# Altium schematic symbol library 1.SchLib: 35 symbols
Pins are listed as number, name and electrical type; pins without a type are passive.

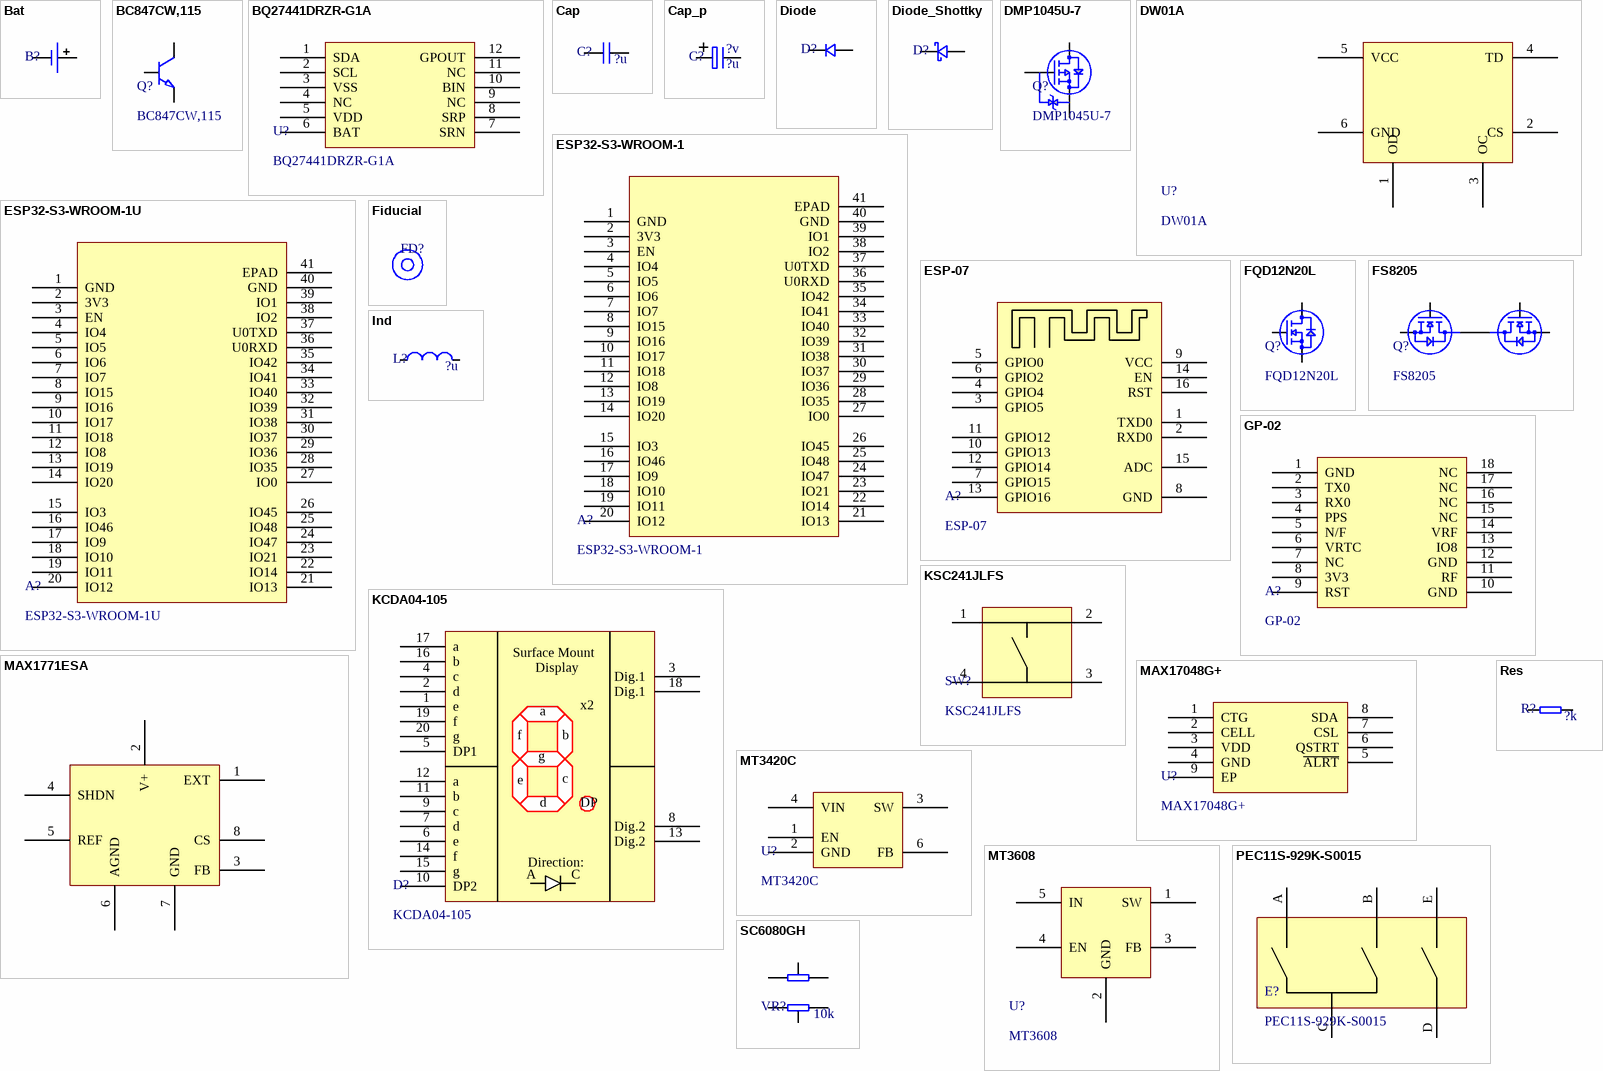
[diagram p0: symbols Bat to SC6080GH]

## Bat
designator B?
BATTERY
pins: 1, 2

## BC847CW,115
designator Q?
TRANS NPN 45V 0.1A SOT23; Manufacturer: Nexperia USA Inc.; P/N: BC847CW,115; Datasheet: https://assets.nexperia.com/documents/data-sheet/BC847_SER.pdf; Package: SOT23
pins: B, C, E
1 alternate drawing of the same symbol

## BQ27441DRZR-G1A
designator U?
IC BATT FUEL GAUGE LI-ION 12SON; Manufacturer: Texas Instruments; Datasheet: http://www.ti.com/lit/ds/symlink/bq27441-g1.pdf; P/N: BQ27441DRZR-G1A
pins: 1 SDA, 2 SCL, 3 VSS, 4 NC, 5 VDD, 6 BAT, 7 SRN, 8 SRP, 9 NC, 10 BIN, 11 NC, 12 GPOUT

## Cap
designator C?, comment ?u
CAPACITOR; Value: ?u
footprint C0402 (Chip Capacitor, 2-Leads, Body 1,00x0,50mm, IPC Medium Density)
footprint C0603 (Chip Capacitor, 2-Leads, Body 1,60x0,80mm, IPC Medium Density)
footprint C0805 (Chip Capacitor, 2-Leads, Body 2,00x1,25mm, IPC Medium Density)
footprint C1206 (Chip Capacitor, 2-Leads, Body 3,20x1,60mm, IPC Medium Density)
footprint C1210 (Chip Capacitor, 2-Leads, Body 3,20x2,50mm, IPC Medium Density)
footprint C1812 (Chip Capacitor, 2-Leads, Body 4,50x3,20mm, IPC Medium Density)
footprint C1825 (Chip Capacitor, 2-Leads, Body 4,50x6,40mm, IPC Medium Density)
footprint C2220 (Chip Capacitor, 2-Leads, Body 5,60x5,00mm, IPC Medium Density)
footprint C2225 (Chip Capacitor, 2-Leads, Body 5,60x6,30mm, IPC Medium Density)
pins: 1, 2

## Cap_p
designator C?, comment Voltage: ?v  (hidden comment: ?u)
CAPACITOR; Value: ?u
footprint CAPM3216X18N_TANTAL_E
footprint CAP_8X10.2 (Aluminum Electrolytic Capacitor, Body 8,25x8,30x10,70mm, IPC Medium Density)
pins: 1, 2

## Diode
designator D?
Diode
footprint CAPM3216X18N_TANTAL_E
pins: 1, 2

## Diode_Shottky
designator D?
Diode Shottky
footprint DIOM6959X26N-SS54 (Molded Diode, 2-Leads, Body 6,86x5,91mm, IPC Medium Density)
pins: 1, 2

## DMP1045U-7
designator Q?
P-CHANNEL ENHANCEMENT MODE MOSFET; Manufacturer: Diodes Incorporated; P/N: DMP1045U-7; Datasheet: https://www.diodes.com/assets/Datasheets/DMP1045U.pdf
footprint SOT23127P600-8N
pins: D, G, S
1 alternate drawing of the same symbol

## DW01A
designator U?
2A 2.3-6V Input 1.5MHz Synchronous Step-Down Converter; Manufacturer: HMsemi; Datasheet: https://hmsemi.com/downfile/DW01A.PDF; P/N: DW01A
footprint SOT23-6-MT3420C (SOT23, 6-Leads, Body 2,90x2,80mm, Pitch 0,95mm, IPC Medium Density)
pins: 1 OD, 2 CS, 3 OC, 4 TD, 5 VCC, 6 GND

## ESP32-S3-WROOM-1
designator A?
2.4 GHz Wi-Fi (802.11 b/g/n) and Bluetooth® 5 (LE) module; Manufacturer: espressif; Datasheet: https://www.espressif.com/sites/default/files/documentation/esp32-s3-wroom-1_wroom-1u_datasheet_en.pdf; P/N: ESP32-S3-WROOM-1
footprint ESP32-S3-WROOM-1
pins: 1 GND, 2 3V3, 3 EN, 4 IO4, 5 IO5, 6 IO6, 7 IO7, 8 IO15, 9 IO16, 10 IO17, 11 IO18, 12 IO8, 13 IO19, 14 IO20, 15 IO3, 16 IO46, 17 IO9, 18 IO10, 19 IO11, 20 IO12, 21 IO13, 22 IO14, 23 IO21, 24 IO47, 25 IO48, 26 IO45, 27 IO0, 28 IO35, 29 IO36, 30 IO37, 31 IO38, 32 IO39, 33 IO40, 34 IO41, 35 IO42, 36 U0RXD, 37 U0TXD, 38 IO2, 39 IO1, 40 GND, 41 EPAD
1 alternate drawing of the same symbol

## ESP32-S3-WROOM-1U
designator A?
2.4 GHz Wi-Fi (802.11 b/g/n) and Bluetooth® 5 (LE) module; Manufacturer: espressif; Datasheet: https://www.espressif.com/sites/default/files/documentation/esp32-s3-wroom-1_wroom-1u_datasheet_en.pdf; P/N: ESP32-S3-WROOM-1U
footprint ESP32-S3-WROOM-1U
pins: 1 GND, 2 3V3, 3 EN, 4 IO4, 5 IO5, 6 IO6, 7 IO7, 8 IO15, 9 IO16, 10 IO17, 11 IO18, 12 IO8, 13 IO19, 14 IO20, 15 IO3, 16 IO46, 17 IO9, 18 IO10, 19 IO11, 20 IO12, 21 IO13, 22 IO14, 23 IO21, 24 IO47, 25 IO48, 26 IO45, 27 IO0, 28 IO35, 29 IO36, 30 IO37, 31 IO38, 32 IO39, 33 IO40, 34 IO41, 35 IO42, 36 U0RXD, 37 U0TXD, 38 IO2, 39 IO1, 40 GND, 41 EPAD
1 alternate drawing of the same symbol

## ESP-07
designator A?
ESP8266 WIFI 802.11B/G/N 160MBIT; Manufacturer: AI Thinker; Datasheet: https://wiki.ai-thinker.com/_media/esp8266/esp8266_series_modules_user_manual_v1.1.pdf; P/N: ESP-07
pins: 1 TXD0, 2 RXD0, 3 GPIO5, 4 GPIO4, 5 GPIO0, 6 GPIO2, 7 GPIO15, 8 GND, 9 VCC, 10 GPIO13, 11 GPIO12, 12 GPIO14, 13 GPIO16, 14 EN, 15 ADC, 16 RST
1 alternate drawing of the same symbol

## Fiducial
designator FD?  (no BOM)
Fiducial marker
footprint Fiducial
pins: 1

## FQD12N20L
designator Q?
n-Channel QFET MOSFET 200V 9A 280mOhm; Manufacturer: Fairchild Semiconductor; P/N: FQD12N20L; Datasheet: https://www.onsemi.com/download/data-sheet/pdf/fqd12n20l-d.pdf; Package: D-PAK
footprint DPAK-fqd12n20l (D-PAK, 3-Pads, Body 6,20x6,72mm (max), IPC Medium Density)
pins: D, G, S
1 alternate drawing of the same symbol

## FS8205
designator Q?
Dual n-Channel Enhancement Mode power MOSFET; Manufacturer: Fortune; P/N: FS8205; Datasheet: https://datasheet.lcsc.com/lcsc/1810110910_Fortune-Semicon-FS8205_C32254.pdf
footprint SOT23-6-MT3420C (SOT23, 6-Leads, Body 2,90x2,80mm, Pitch 0,95mm, IPC Medium Density)
pins: 1 S1, 2 D12, 3 S2, 4 G2, 5 D12, 6 G1
1 alternate drawing of the same symbol

## GP-02
designator A?
high-performance BDS/GNSS multi-mode satellite navigation receiver SOCmodule; Manufacturer: Ai Thinker; Datasheet: https://docs.ai-thinker.com/_media/gp-02_specification.pdf; P/N: GP-02
footprint GP-02
pins: 1 GND, 2 TX0, 3 RX0, 4 PPS, 5 N/F, 6 VRTC, 7 NC, 8 3V3, 9 RST, 10 GND, 11 RF, 12 GND, 13 IO8, 14 VRF, 15 NC, 16 NC, 17 NC, 18 NC
1 alternate drawing of the same symbol

## Ind
designator L?, comment ?u
INDUCTOR; Value: ?u
footprint CD127-IND (Precision Wire Wound Inductor, 2-Leads, Body 12,00x12,00mm, IPC Medium Density)
footprint C0805 (Chip Capacitor, 2-Leads, Body 2,00x1,25mm, IPC Medium Density)
footprint CDRH5D16
footprint ASPI-0630LR-4R7
pins: 1, 2

## KCDA04-105
designator D?
Surface Mount Display; Manufacturer: Kingbright; P/N: KCDA04-105; Datasheet: https://www.kingbright.com/attachments/file/psearch/000/00/00/KCDA04-105(Ver.11A).pdf
pins: 1 e, 2 d, 3 Dig.1, 4 c, 5 DP1, 6 e, 7 d, 8 Dig.2, 9 c, 10 DP2, 11 b, 12 a, 13 Dig.2, 14 f, 15 g, 16 b, 17 a, 18 Dig.1, 19 f, 20 g
text: Surface Mount; Display; x2; DP; Direction:; A; C

## KSC241JLFS
designator SW?
SWITCH TACTILE SPST-NO 50mA @ 32VDC; Manufacturer: C&K; P/N: KSC241JLFS; Datasheet: https://www.ckswitches.com/media/1968/ksc2.pdf
footprint KSC241JLFS
pins: 1, 2, 3, 4

## MAX1771ESA
designator U?
12V or Adjustable, High-Efficiency, / Low IQ, Step-Up DC-DC Controller; Manufacturer: Maxim; Datasheet: https://static.chipdip.ru/lib/300/DOC000300892.pdf; P/N: MAX1771ESA
footprint MAX1771ESA (SOIC, 8-Leads, Body 4,90x3,90mm, Pitch 1,27mm, IPC Medium Density)
pins: 1 EXT, 2 V+, 3 FB, 4 SHDN, 5 REF, 6 AGND, 7 GND, 8 CS

## MAX17048G+
designator U?
Micropower 1 Cell Li+ ModelFuel Gauge; Manufacturer: Maxim Integrated; P/N: MAX17048G+; Datasheet: https://datasheetspdf.com/pdf-file/929924/MaximIntegrated/MAX17048/1
footprint 8 TDFN-EP-MAX17048G+
pins: 1 CTG, 2 CELL, 3 VDD, 4 GND, 5 ~{ALRT}, 6 QSTRT, 7 CSL, 8 SDA, 9 EP

## MT3420C
designator U?
2A 2.3-6V Input 1.5MHz Synchronous Step-Down Converter; Manufacturer: Aerosemi; Datasheet: https://datasheet.lcsc.com/lcsc/1806041635_XI-AN-Aerosemi-Tech-MT3420C_C181741.pdf; P/N: MT3420C
footprint SOT23-6-MT3420C (SOT23, 6-Leads, Body 2,90x2,80mm, Pitch 0,95mm, IPC Medium Density)
pins: 1 EN, 2 GND, 3 SW, 4 VIN, 6 FB

## MT3608
designator U?
High Efficiency 1.2MHz 2A Step Up Converter; Manufacturer: Aerosemi; Datasheet: https://www.olimex.com/Products/Breadboarding/BB-PWR-3608/resources/MT3608.pdf; P/N: MT3608
footprint SOT23-6-MT3420C (SOT23, 6-Leads, Body 2,90x2,80mm, Pitch 0,95mm, IPC Medium Density)
pins: 1 SW, 2 GND, 3 FB, 4 EN, 5 IN

## PEC11S-929K-S0015
designator E?
ROTARY ENCODER MECHANICAL 15PPR; Manufacturer: Bourns; P/N: PEC11S-929K-S0015; Datasheet: https://www.bourns.com/docs/product-datasheets/pec11s.pdf?sfvrsn=601089f1_5; Supplier 1: Aliexpress; Supplier Part Number 1: https://ru.aliexpress.com/item/32982414097.html?spm=a2g0o.productlist.0.0.66c8dd40JI3Wx0&algo_pvid=9a118981-c070-4602-89dc-e0076a1d9175&algo_expid=9a118981-c070-4602-89dc-e0076a1d9175-0&btsid=fce86d33-42b5-41e8-9f27-e9f4b1b87b22&ws_ab_test=searchweb0_0,searchweb201602_7,searchweb201603_52
footprint PEC11S-929K-S0015
pins: A, B, C, D 1, E 2

## Res
designator R?, comment ?k
RESISTOR; Value: ?k
footprint R0402 (Resistor)
footprint R0603 (Chip Resistor)
footprint R0805 (Chip Resistor, 2-Leads, Body 2,10x1,30mm, IPC Medium Density)
footprint R1206 (Chip Resistor)
footprint R1210 (Chip Resistor)
footprint R2010 (Chip Resistor)
pins: 1, 2

## SC6080GH
designator VR?, comment 10k
Nominal Resistance: 10K / Rated Power: 0.25 (W) / Resistance Tolerance: ±20 (%) / Sliding Noise: Less Than 68m (V) / Resolution: 100 (%) / Zero Resistance: 2 (Ω) / Contact Resistance: 5 (Ω) / Insulation Resistance: 100 (MΩ) / Whole Length: Approx. 75mm/3.0in; P/N: SC6080GH; Value: 10k
footprint SC6080GH
pins: 1, 1', 2, 2', 3, 3'

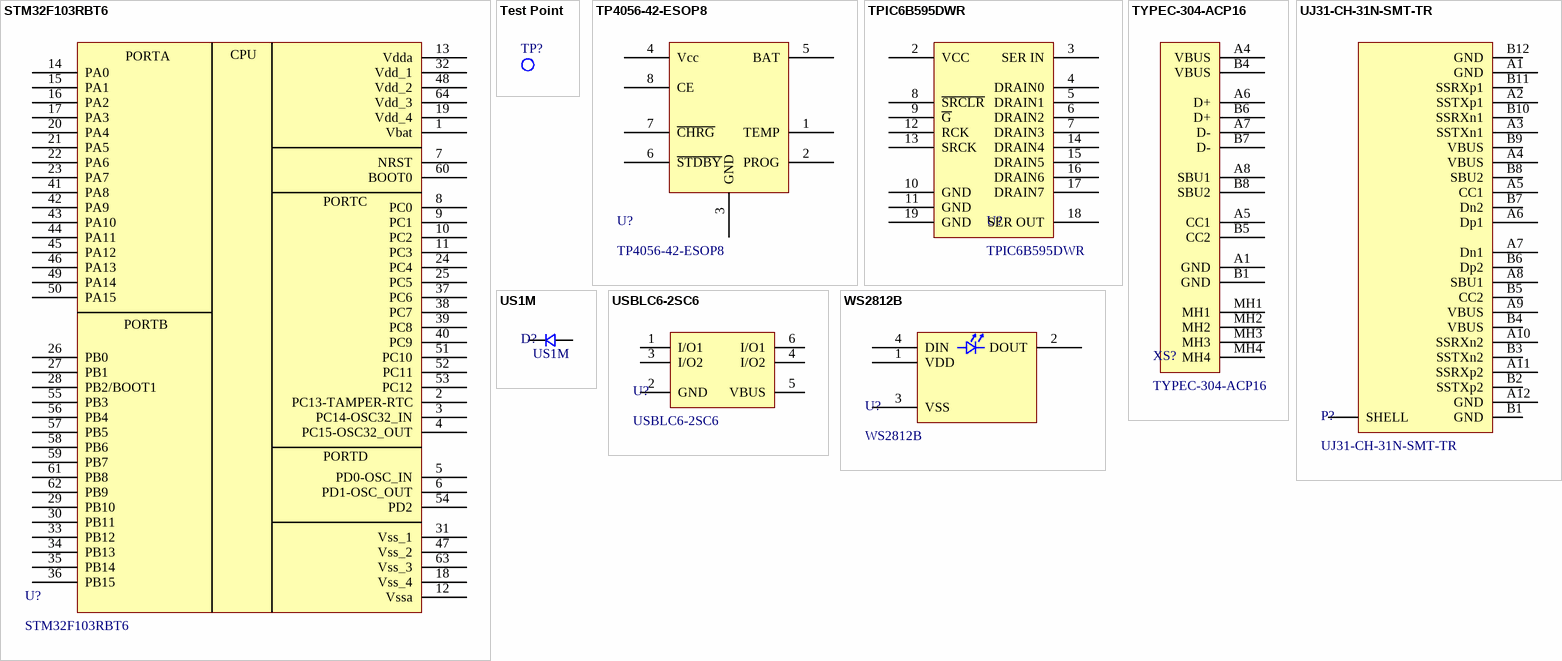
[diagram p1: symbols STM32F103RBT6 to WS2812B]

## STM32F103RBT6
designator U?
IC MCU 32BIT 128KB FLASH 64LQFP; Manufacturer: STMicroelectronics; Datasheet: https://www.st.com/resource/en/datasheet/cd00161566.pdf; P/N: STM32F103RBT6
pins: 1 Vbat, 2 PC13-TAMPER-RTC, 3 PC14-OSC32_IN, 4 PC15-OSC32_OUT, 5 PD0-OSC_IN, 6 PD1-OSC_OUT, 7 NRST, 8 PC0, 9 PC1, 10 PC2, 11 PC3, 12 Vssa, 13 Vdda, 14 PA0, 15 PA1, 16 PA2, 17 PA3, 18 Vss_4, 19 Vdd_4, 20 PA4, 21 PA5, 22 PA6, 23 PA7, 24 PC4, 25 PC5, 26 PB0, 27 PB1, 28 PB2/BOOT1, 29 PB10, 30 PB11, 31 Vss_1, 32 Vdd_1, 33 PB12, 34 PB13, 35 PB14, 36 PB15, 37 PC6, 38 PC7, 39 PC8, 40 PC9, 41 PA8, 42 PA9, 43 PA10, 44 PA11, 45 PA12, 46 PA13, 47 Vss_2, 48 Vdd_2, 49 PA14, 50 PA15, 51 PC10, 52 PC11, 53 PC12, 54 PD2, 55 PB3, 56 PB4, 57 PB5, 58 PB6, 59 PB7, 60 BOOT0, 61 PB8, 62 PB9, 63 Vss_3, 64 Vdd_3
text: PORTA; CPU; PORTC; PORTB; PORTD

## Test Point
designator TP?  (no BOM)
Test point
footprint Test-Point
pins: 0

## TP4056-42-ESOP8
designator U?
1A Standalone Linear Li-lon Battery Charger with Thermal / Regulation in SOP-8; Manufacturer: TopPower; P/N: TP4056-42-ESOP8; Datasheet: https://datasheet.lcsc.com/lcsc/1809261820_TOPPOWER-Nanjing-Extension-Microelectronics-TP4056-42-ESOP8_C16581.pdf; Datasheet_EN: https://dlnmh9ip6v2uc.cloudfront.net/datasheets/Prototyping/TP4056.pdf
footprint TP4056-SOIC8-TP
pins: 1 TEMP, 2 PROG, 3 GND, 4 Vcc, 5 BAT, 6 ~{STDBY}, 7 ~{CHRG}, 8 CE

## TPIC6B595DWR
designator U?
Power Logic 8-Bit Shift Register; Manufacturer: Texas Instruments; Datasheet: https://static.chipdip.ru/lib/542/DOC012542376.pdf; P/N: TPIC6B595DWR
footprint SOP127P1030X265-20N (SOP, 20-Leads, Body 12,80x7,50mm, Pitch 1,27mm, IPC Medium Density)
pins: 2 VCC, 3 SER IN, 4 DRAIN0, 5 DRAIN1, 6 DRAIN2, 7 DRAIN3, 8 ~{SRCLR}, 9 ~{G}, 10 GND, 11 GND, 12 RCK, 13 SRCK, 14 DRAIN4, 15 DRAIN5, 16 DRAIN6, 17 DRAIN7, 18 SER OUT, 19 GND
1 alternate drawing of the same symbol

## TYPEC-304-ACP16
designator XS?
USB Type-C Compatible 16-position Right Angle Receptacle; Manufacturer: XUNPU; Datasheet: https://datasheet.lcsc.com/lcsc/2008152133_XUNPU-TYPEC-304S-ACP16_C720630.pdf; P/N: TYPEC-304-ACP16
footprint XUNPU_TYPEC-304-ACP16
pins: A1 GND, A4 VBUS, A5 CC1, A6 D+, A7 D-, A8 SBU1, B1 GND, B4 VBUS, B5 CC2, B6 D+, B7 D-, B8 SBU2, MH1, MH2, MH3, MH4
1 alternate drawing of the same symbol

## UJ31-CH-31N-SMT-TR
designator P?
CONN RCPT USB3.1 TYPEC 24POS R/A; Manufacturer: CUI Devices; Datasheet: https://www.cuidevices.com/product/resource/uj31-ch-smt.pdf; P/N: UJ31-CH-31N-SMT-TR
footprint UJ31-CH-31N-SMT-TR
pins: 0 SHELL, A1 GND, A2 SSTXp1, A3 SSTXn1, A4 VBUS, A5 CC1, A6 Dp1, A7 Dn1, A8 SBU1, A9 VBUS, A10 SSRXn2, A11 SSRXp2, A12 GND, B1 GND, B2 SSTXp2, B3 SSTXn2, B4 VBUS, B5 CC2, B6 Dp2, B7 Dn2, B8 SBU2, B9 VBUS, B10 SSRXn1, B11 SSRXp1, B12 GND

## US1M
designator D?  P/N: US1M
1.0A SURFACE MOUNT ULTRA-FAST RECTIFIER; Manufacturer: Vishay; Datasheet: https://www.vishay.com/docs/88768/us1_test_dcicons.pdf
footprint DO-214AC(SMA)
pins: 1, 2

## USBLC6-2SC6
designator U?
TVS DIODE 5.25V 17V SOT23-6; Manufacturer: STMicroelectronics; Datasheet: https://www.st.com/content/ccc/resource/technical/document/datasheet/06/1d/48/9c/6c/20/4a/b2/CD00050750.pdf/files/CD00050750.pdf/jcr:content/translations/en.CD00050750.pdf; P/N: USBLC6-2SC6
footprint SOT23-6L-USBLC6-2SC6 (SOT23, 6-Leads, Body 2,93x2,80mm, Pitch 0,95mm, IPC Medium Density)
pins: 1 I/O1, 2 GND, 3 I/O2, 4 I/O2, 5 VBUS, 6 I/O1

## WS2812B
designator U?
LED RGB 800kHZ; Manufacturer: Worldsemi; Datasheet: https://cdn-shop.adafruit.com/datasheets/WS2812B.pdf; P/N: WS2812B
footprint WS2812B
pins: 1 VDD, 2 DOUT, 3 VSS, 4 DIN